# EAGLE library part ECH381V-08P-N (library My Library-adm)
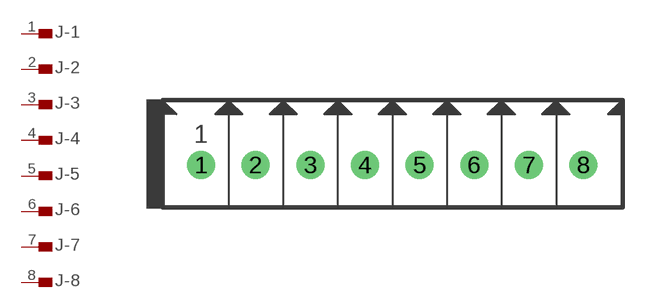
[diagram p1: symbol with the pads of ECH381V-08P-N; footprint ECH381V-08P-N]

Designator prefix J; gates -1=PIN -2=PIN -3=PIN -4=PIN -5=PIN -6=PIN -7=PIN -8=PIN

## ECH381V-08P-N  [ECH381V-08P-N]
1  -1:1  pas
2  -2:1  pas
3  -3:1  pas
4  -4:1  pas
5  -5:1  pas
6  -6:1  pas
7  -7:1  pas
8  -8:1  pas

## Footprint ECH381V-08P-N (pad centres in mm)
drill 1.3: 1 -13.335,0; 2 -9.525,0; 3 -5.715,0; 4 -1.905,0; 5 1.905,0; 6 5.715,0; 7 9.525,0; 8 13.335,0